# Altium footprint library BYV26.PcbLib: 1 footprints
Each footprint in its own frame and in the unit in brackets; x right, y up, seen from the top. Pads: shape width x height; smd on the part's side, far side on the other; paste and mask are expansions set on the pad; w line width, h text height; cw(c..) or ccw(c..) is an arc to the next point about the centre after c.
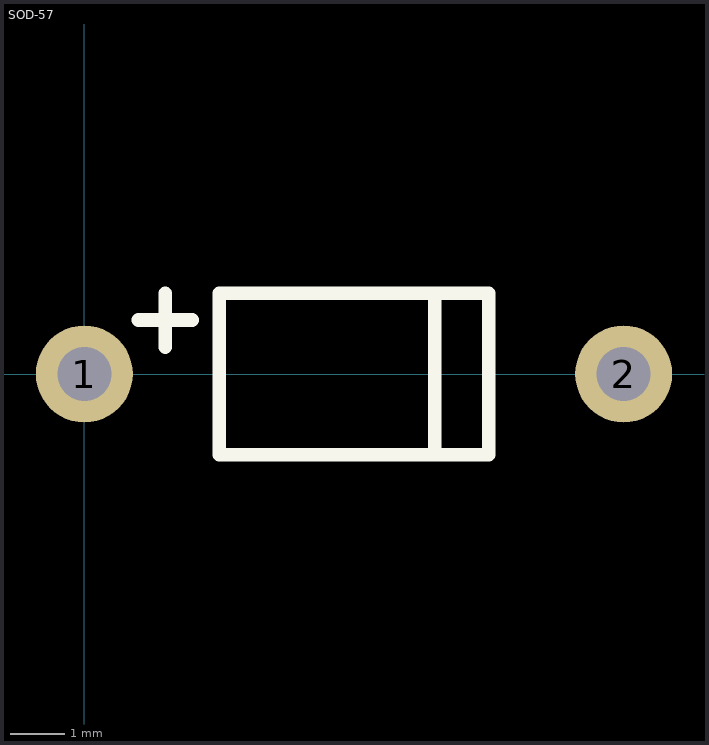
[diagram p0: the footprint, top view; thin cyan lines are the x and y axes]

## SOD-57 [mm] "2s151"
pads (2):
  round 1.8 hole 1: 1(0,0) 2(10,0)
Top Overlay:
  lines w0.25: 2.5,-1.5 2.5,1.5 7.5,1.5 7.5,-1.5 2.5,-1.5
  lines w0.254: 1,1 2,1 ; 1.5,0.5 1.5,1.5 ; 6.5,-1.4 6.5,1.5
3D body "ДИОД.STEP": height 4.35, standoff -1.5, extent -0.4,-1.85 10.4,1.85